# EAGLE library part CD4017BE (library CD4017BE)
CMOS COUNTER/DIVIDERS Check availability <https://pricing.snapeda.com/parts/CD4017BE/Harris%20Corporation/view-part?ref=eda>
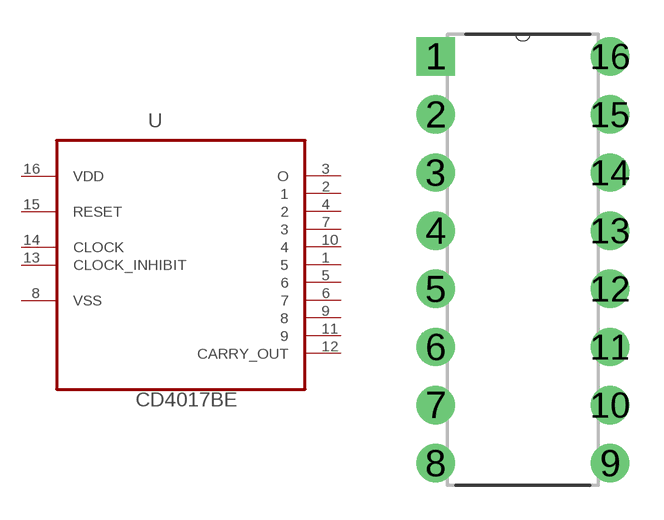
[diagram p0: symbol with the pads of DIP254P762X508-16; footprint DIP254P762X508-16]

Designator prefix U

## CD4017BE (Availability: In Stock; Check_prices: https://www.snapeda.com/parts/CD4017BE/WAGO/view-part/?ref=eda; Description: Counter/Divider Single 5-Bit Decade UP 16-Pin PDIP Tube; MF: Harris Corporation; MP: CD4017BE; Package: None; Price: None; SnapEDA_Link: https://www.snapeda.com/parts/CD4017BE/WAGO/view-part/?ref=snap)  [DIP254P762X508-16]
1  5  out
2  1  out
3  O  out
4  2  out
5  6  out
6  7  out
7  3  out
8  VSS  pwr
9  8  out
10  4  out
11  9  out
12  CARRY_OUT  out
13  CLOCK_INHIBIT  in
14  CLOCK  in
15  RESET  in
16  VDD  pwr

## Footprint DIP254P762X508-16 (pad centres in mm)
drill 1.118 square: 1 -7.62,17.78
drill 1.118: 2 -7.62,15.24; 3 -7.62,12.7; 4 -7.62,10.16; 5 -7.62,7.62; 6 -7.62,5.08; 7 -7.62,2.54; 8 -7.62,0; 9 0,0; 10 0,2.54; 11 0,5.08; 12 0,7.62; 13 0,10.16; 14 0,12.7; 15 0,15.24; 16 0,17.78